# EAGLE library part BALUN+LP (library microbuilder)
Balun + Low Pass Filter 0805 863-928 MHz Balun + Low Pass Filter (0805) - Digikey: 712-1473-1-ND
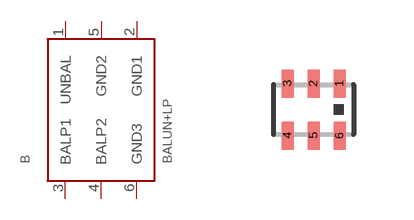
[diagram p49: symbol with the pads of BALUN0805; footprint BALUN0805]

Designator prefix B

## BALUN+LP  [BALUN0805]
1  UNBAL
2  GND1
3  BALP1
4  BALP2
5  GND2
6  GND3

## Footprint BALUN0805 (pad centres in mm)
smd 0.3 x 0.7: 1 0.65,0.65; 2 0,0.65; 3 -0.65,0.65; 4 -0.65,-0.65; 5 0,-0.65; 6 0.65,-0.65